# Altium schematic symbol library SchLib.SchLib: 3 symbols
Pins are listed as number, name and electrical type; pins without a type are passive.

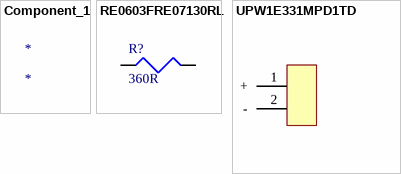
[diagram p0: symbols Component_1 to UPW1E331MPD1TD]

## Component_1
designator *

## RE0603FRE07130RL
designator R?, comment 360R
Chip Resistor Precision Grade Thick Film 0603 130Ohm 1% Paper T/R; Manufacturer: Yageo; Manufacturer Part Number: RE0603FRE07130RL; Resistance: 130R; Max Power Dissipation: 100mW; Temperature Coefficient: 50ppm/°C; Supplier 1: Digi-Key; RoHS: Yes; Category: Chip SMD Resistors; Stock 1: 3883; Pricing 1: 1=0.10000, 10=0.03600, 100=0.01450, 1000=0.00649, 2500=0.00563 (USD); Case/Package: 0603; Min Operating Temperature: -55°C; Max Operating Temperature: 155°C; Features: Moisture Resistant; Packaging: Tape and Reel; Resistor Type: Thick Film; Number of Terminations: 2; Tolerance: 1%; Length: 0.063inch; Width: 0.032inch; Height: 0.022inch; ComponentLink1URL: http://www.yageo.com/NewPortal/yageodocoutput?fileName=/pdf/R-Chip/PYu-RE_105_RoHS_L_4.pdf&src-supplier=Digi-Key; ComponentLink1Description: http://www.yageo.com/NewPortal/yageodocoutput?fileName=/pdf/R-Chip/PYu-RE_105_RoHS_L_4.pdf&src-supplier=Digi-Key; Supplier Part Number 1: 13-RE0603FRE07130RLCT-ND; Parameter 1: Resistor
pins: 1, 2

## UPW1E331MPD1TD
designator *
Aluminum Electrolytic Capacitors - Leaded 330 uF 25 V SINGLE; Manufacturer: Nichicon; Manufacturer Part Number: UPW1E331MPD1TD; Life (Hours): 5000Hour; Lead/Base Style: Straight; Dissipation Factor: 0.14%; Impedance: 90mR; Capacitance: 330uF; Tolerance: 20%; Voltage Rating: 25V; Ripple Current: 494mA; Lead Diameter: 0.6mm; Supplier 1: Digi-Key; RoHS: Yes; Category: Aluminum Electrolytic Capacitors; Stock 1: 2740; Pricing 1: 1=0.47000, 10=0.33200, 50=0.25100, 100=0.21860 (USD); Mount: Through Hole; Case/Package: Radial; Min Operating Temperature: -55°C; Max Operating Temperature: 105°C; Termination: Radial; Package Quantity: 500; Packaging: Tape and Reel; Voltage Rating (DC): 25V; Diameter: 10mm; Length: 12.5mm; Height: 12.5mm; Lead Pitch: 5mm; Height - Seated (Max): 0.551inch; Radiation Hardening: No; REACH SVHC: No SVHC; ComponentLink1URL: https://datasheet.ciiva.com/30528/getdatasheetpartid-782760-30528497.pdf?src-supplier=Verical; ComponentLink1Description: https://datasheet.ciiva.com/30528/getdatasheetpartid-782760-30528497.pdf?src-supplier=Verical; ComponentLink2URL: https://datasheet.ciiva.com/7851/e-pw-7851676.pdf?src-supplier=Element14; ComponentLink2Description: https://datasheet.ciiva.com/7851/e-pw-7851676.pdf?src-supplier=Element14; Supplier Part Number 1: 493-11722-1-ND
pins: 1 +, 2 -